# Altium schematic symbol library 2020-10-26_19-15-19.SchLib: 7 symbols
Pins are listed as number, name and electrical type; pins without a type are passive.

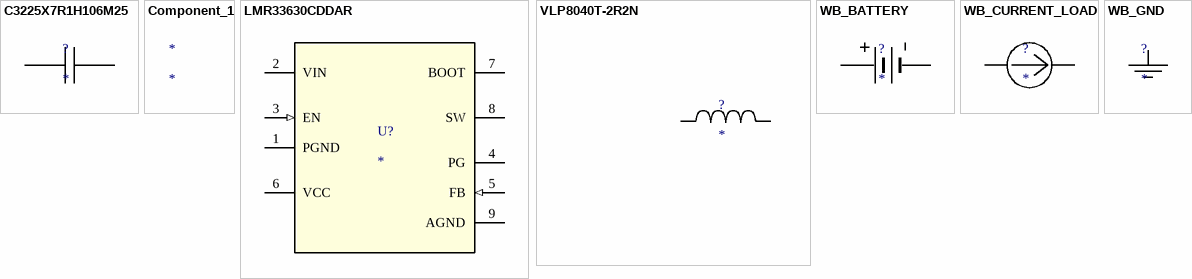
[diagram p0: symbols C3225X7R1H106M25 to WB_GND]

## C3225X7R1H106M25
designator ?
Imported; Manufacturer_Part_Number: C3225X7R1H106M250AC; Vendor: TDK; TYPE_2: TYPE; Datasheet_URL: http://product.tdk.com/en/catalog/datasheets/mlcc%5Fcommercial%5Fgeneral%5Fen.pdf; Manufacturer_Name: TDK; RefDes: RefDes; Type: DEV; Value: Value
footprint 1210
pins: 1, 2

## Component_1
designator *

## LMR33630CDDAR
designator U?
Imported; PartNumber: LMR33630CDDAR; Manufacturer: Texas Instruments; RefDes: RefDes; Type: DEV; Value: Value; Manufacturer_Part_Number: LMR33630CDDAR; Manufacturer_Name: Texas Instruments
footprint DDA0008J
pins: 1 PGND (power), 2 VIN (power), 3 EN (in), 4 PG (oc), 5 FB (in), 6 VCC (power), 7 BOOT (power), 8 SW (power), 9 AGND

## VLP8040T-2R2N
designator ?
Imported; Manufacturer_Part_Number: VLP8040T-2R2N; Vendor: TDK; DESCRIPTION: Unknown; PACKAGE_DESIGNATOR: VLP8040; Datasheet_URL: http://www.tdk.co.jp/tjfx01/j531_vlp.pdf; Manufacturer: TDK; Manufacturer_Name: TDK; RefDes: RefDes; Type: DEV; Value: Value
footprint VLP8040
pins: 1, 2

## WB_BATTERY
designator ?
Imported; Manufacturer_Part_Number: WB_BATTERY; PowerPortType: POWER_GROUND; Value: Value; Manufacturer_Name: WB_BATTERY; RefDes: RefDes; TYPE: TYPE
pins: 1 +, 2 -

## WB_CURRENT_LOAD
designator ?
Imported; Manufacturer_Part_Number: WB_CURRENT_LOAD; PowerPortType: POWER_GROUND; Value: Value; Manufacturer_Name: WB_CURRENT_LOAD; RefDes: RefDes; TYPE: TYPE
pins: 1 +, 2 -

## WB_GND
designator ?
Imported; Manufacturer_Part_Number: WB_GND; PowerPortType: POWER_GROUND; Value: Value; Manufacturer_Name: WB_GND; RefDes: RefDes; TYPE: TYPE
pins: 1